# EAGLE library part AN7118S (library Audio-Power-amplifier)
Low Voltage Dual 35mW Audio Power Amplifier Circuits (BTL 300mW)
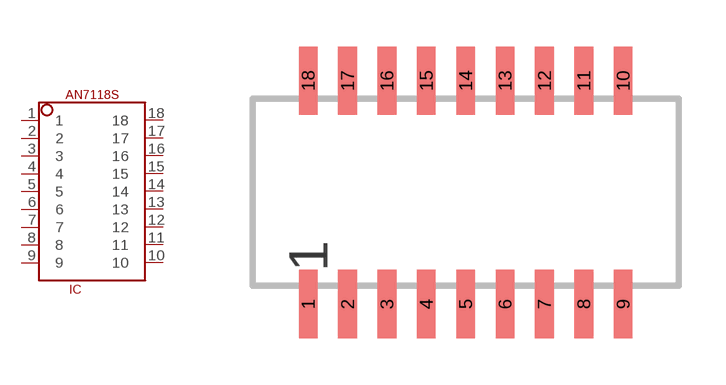
[diagram p47: symbol with the pads of SOP018-P-0300; footprint SOP018-P-0300]

Designator prefix IC

## AN7118S  [SOP018-P-0300]
1  1  pwr
2  2  out
3  3  oc
4  4
5  5
6  6
7  7
8  8  in
9  9  pwr
10  10
11  11  out
12  12  nc
13  13
14  14
15  15
16  16
17  17  in
18  18  pwr

## Footprint SOP018-P-0300 (pad centres in mm)
SMALL OUTLINE PACKAGE
smd 0.6 x 2.2: 1 -5.08,-3.6; 2 -3.81,-3.6; 3 -2.54,-3.6; 4 -1.27,-3.6; 5 0,-3.6; 6 1.27,-3.6; 7 2.54,-3.6; 8 3.81,-3.6; 9 5.08,-3.6; 10 5.08,3.6; 11 3.81,3.6; 12 2.54,3.6; 13 1.27,3.6; 14 0,3.6; 15 -1.27,3.6; 16 -2.54,3.6; 17 -3.81,3.6; 18 -5.08,3.6